# EAGLE library part LTC145_(DAC12) (library QuantumOptics)
LTC145x, 12-bit SPI DAC, Linear Technology, int/ext ref, single supply, SO-8. http://www.linear.com/pc/downloadDocument.do?navId=H0,C1,C1155,C1005,C1156,P1017,D3265
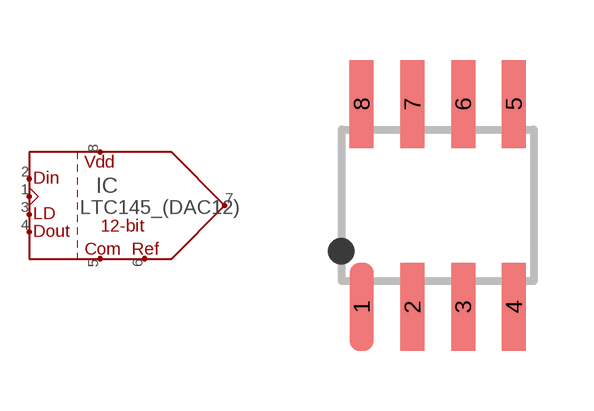
[diagram p59: symbol with the pads of SOIC-8; footprint SOIC-8]

Designator prefix IC

## LTC145_(DAC12)  [SOIC-8]
1  CLK  in
2  DIN  in
3  CS/LD  in
4  DOUT  out
5  COM
6  REF
7  OUT
8  VDD

## Footprint SOIC-8 (pad centres in mm)
SOIC-8 (a.k.a. SO-8), pads on 0.050" x 0.200" c-c spacing.
smd 0.6 x 2.2: 1 -1.27,-2.54; 2 0,-2.54; 3 1.27,-2.54; 4 2.54,-2.54; 5 2.54,2.54; 6 1.27,2.54; 7 0,2.54; 8 -1.27,2.54